# Altium schematic symbol library Diode.SchLib: 1 symbol
Pins are listed as number, name and electrical type; pins without a type are passive.

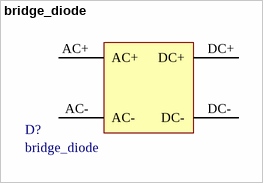
[diagram p0: symbol bridge_diode]

## bridge_diode
designator D?
footprint bridge_diode
pins: AC+, AC-, DC+, DC-